# Altium footprint library PcbLib1.PcbLib: 5 footprints
Each footprint in its own frame and in the unit in brackets; x right, y up, seen from the top. Pads: shape width x height; smd on the part's side, far side on the other; paste and mask are expansions set on the pad; w line width, h text height; cw(c..) or ccw(c..) is an arc to the next point about the centre after c.
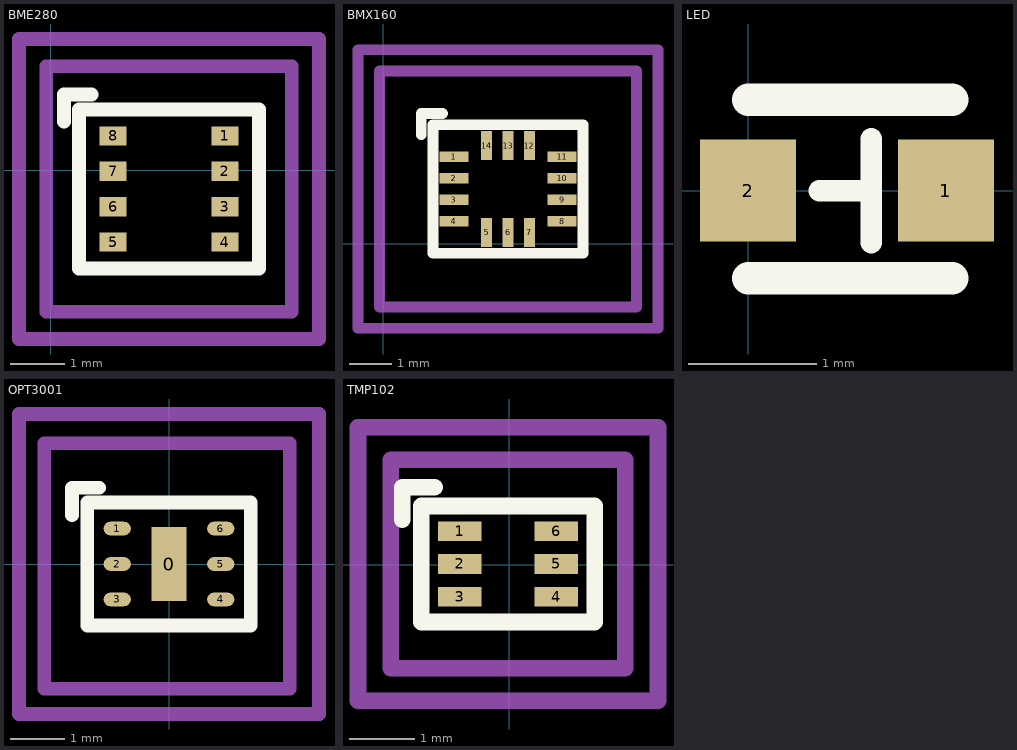
[diagram p0: the footprints below, top view; thin cyan lines are the x and y axes]

## BME280 [mm]
pads (8):
  rect 0.5x0.35 smd: 1(3.193,0.635) 2(3.193,-0.015) 3(3.193,-0.665) 4(3.193,-1.315) 5(1.143,-1.315) 6(1.143,-0.665) 7(1.143,-0.015) 8(1.143,0.635)
Top Overlay:
  lines w0.254: 0.244,0.894 0.244,1.394 0.744,1.394 ; 0.517,-1.8 0.517,1.121 3.819,1.121 3.819,-1.8 0.517,-1.8
Mechanical 2:
  lines w0.254: -0.582,-3.09 4.918,-3.09 4.918,2.41 -0.582,2.41 -0.582,-3.09 ; -0.082,-2.59 4.418,-2.59 4.418,1.91 -0.082,1.91 -0.082,-2.59
3D body: height 0.93, standoff 0, extent 0.918,-1.59 3.418,0.91

## BMX160 [mm]
pads (14):
  rect 0.675x0.25 smd: 1(1.651,2.032) 2(1.651,1.532) 3(1.651,1.032) 4(1.651,0.532) 8(4.176,0.532) 9(4.176,1.032) 10(4.176,1.532) 11(4.176,2.032)
  rect 0.25x0.675 smd: 5(2.414,0.27) 6(2.913,0.27) 7(3.413,0.27) 12(3.414,2.295) 13(2.913,2.295) 14(2.414,2.295)
Top Overlay:
  lines w0.254: 0.889,2.548 0.889,3.048 1.389,3.048 ; 1.163,-0.218 1.163,2.782 4.663,2.782 4.663,-0.218 1.163,-0.218
Mechanical 2:
  lines w0.254: -0.587,-1.968 -0.587,4.532 6.413,4.532 6.413,-1.968 -0.587,-1.968 ; -0.087,-1.468 -0.087,4.032 5.913,4.032 5.913,-1.468 -0.087,-1.468
3D body: height 0.82, standoff 0, extent 1.389,0.012 4.389,2.512

## LED [mm]
pads (2):
  rect 0.75x0.8 smd: 1(1.55,0) 2(0,0)
Top Overlay:
  lines w0.17: 0.559,0 0.965,0 ; 0.965,-0.406 0.965,0.406
  lines w0.254: 0,-0.686 1.6,-0.686 ; 0,0.711 1.6,0.711

## OPT3001 [mm]
pads (7):
  rect 0.65x1.35 smd: 0(0,0)
  rrect100% 0.5x0.25 smd: 1(-0.95,0.65) 2(-0.95,0) 3(-0.95,-0.65) 4(0.95,-0.65) 5(0.95,0) 6(0.95,0.65)
Top Overlay:
  lines w0.254: -1.778,0.897 -1.778,1.397 -1.278,1.397 ; -1.5,-1.125 -1.5,1.125 1.5,1.125 1.5,-1.125 -1.5,-1.125
Mechanical 2:
  lines w0.254: -2.75,-2.75 -2.75,2.75 2.75,2.75 2.75,-2.75 -2.75,-2.75 ; -2.286,-2.286 -2.286,2.214 2.214,2.214 2.214,-2.286 -2.286,-2.286
3D body: height 0.55, standoff 0, extent -1,-1 1,1

## TMP102 [mm]
pads (6):
  rect 0.67x0.3 smd: 1(-0.762,0.508) 2(-0.762,0.008) 3(-0.762,-0.492) 4(0.718,-0.492) 5(0.718,0.008) 6(0.718,0.508)
Top Overlay:
  lines w0.254: -1.642,0.683 -1.642,1.183 -1.142,1.183 ; -1.355,-0.881 1.312,-0.881 1.312,0.897 -1.355,0.897 -1.355,-0.881
Mechanical 2:
  lines w0.254: -2.322,-2.092 2.278,-2.092 2.278,2.108 -2.322,2.108 -2.322,-2.092 ; -1.822,-1.592 1.778,-1.592 1.778,1.608 -1.822,1.608 -1.822,-1.592
3D body: height 0.6, standoff 0, extent -0.622,-0.792 0.578,0.808